# EAGLE library part FE08-1 (library con-lsta)
FEMALE HEADER
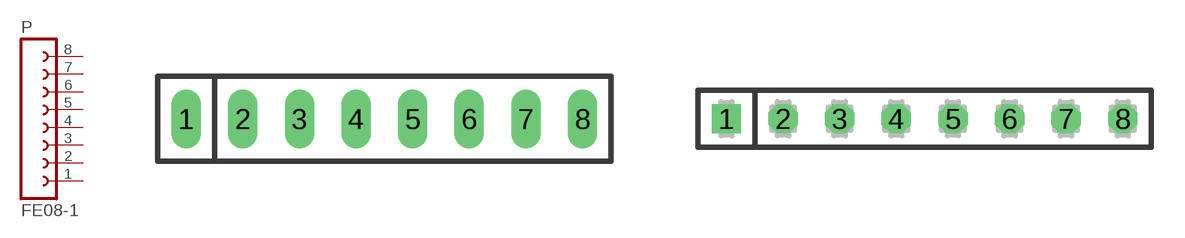
[diagram p22: symbol with the pads of FE08-1Y; footprints FE08-1Y, FE08-1]

Designator prefix P

## FE08-1Y  [FE08-1Y]
1  1  pas
2  2  pas
3  3  pas
4  4  pas
5  5  pas
6  6  pas
7  7  pas
8  8  pas

## FE08-1  [FE08-1]
Pads as for FE08-1Y

## Footprint FE08-1Y (pad centres in mm)
FEMALE HEADER
drill 0.813 long: 1 -8.89,0; 2 -6.35,0; 3 -3.81,0; 4 -1.27,0; 5 1.27,0; 6 3.81,0; 7 6.35,0; 8 8.89,0

## Footprint FE08-1 (pad centres in mm)
drill 0.813 square: 1 -8.89,0
drill 0.813 octagon: 2 -6.35,0; 3 -3.81,0; 4 -1.27,0; 5 1.27,0; 6 3.81,0; 7 6.35,0; 8 8.89,0